# Altium schematic symbol library LM2665.SchLib: 1 symbol
Pins are listed as number, name and electrical type; pins without a type are passive.

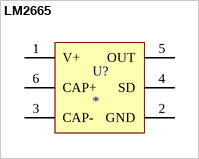
[diagram p0: symbol LM2665]

## LM2665
designator U?
Switched Capacitor Voltage Converter; Manufacturer: National; Part No.: LM2665; Vendor: Digi-Key; Price Est.: $1.35
pins: 1 V+, 2 GND, 3 CAP-, 4 SD, 5 OUT, 6 CAP+